# Altium footprint library libreriaPcb.PcbLib: 683 footprints (part 3 of 44)
Each footprint in its own frame and in the unit in brackets; x right, y up, seen from the top. Pads: shape width x height; smd on the part's side, far side on the other; paste and mask are expansions set on the pad; w line width, h text height; cw(c..) or ccw(c..) is an arc to the next point about the centre after c.
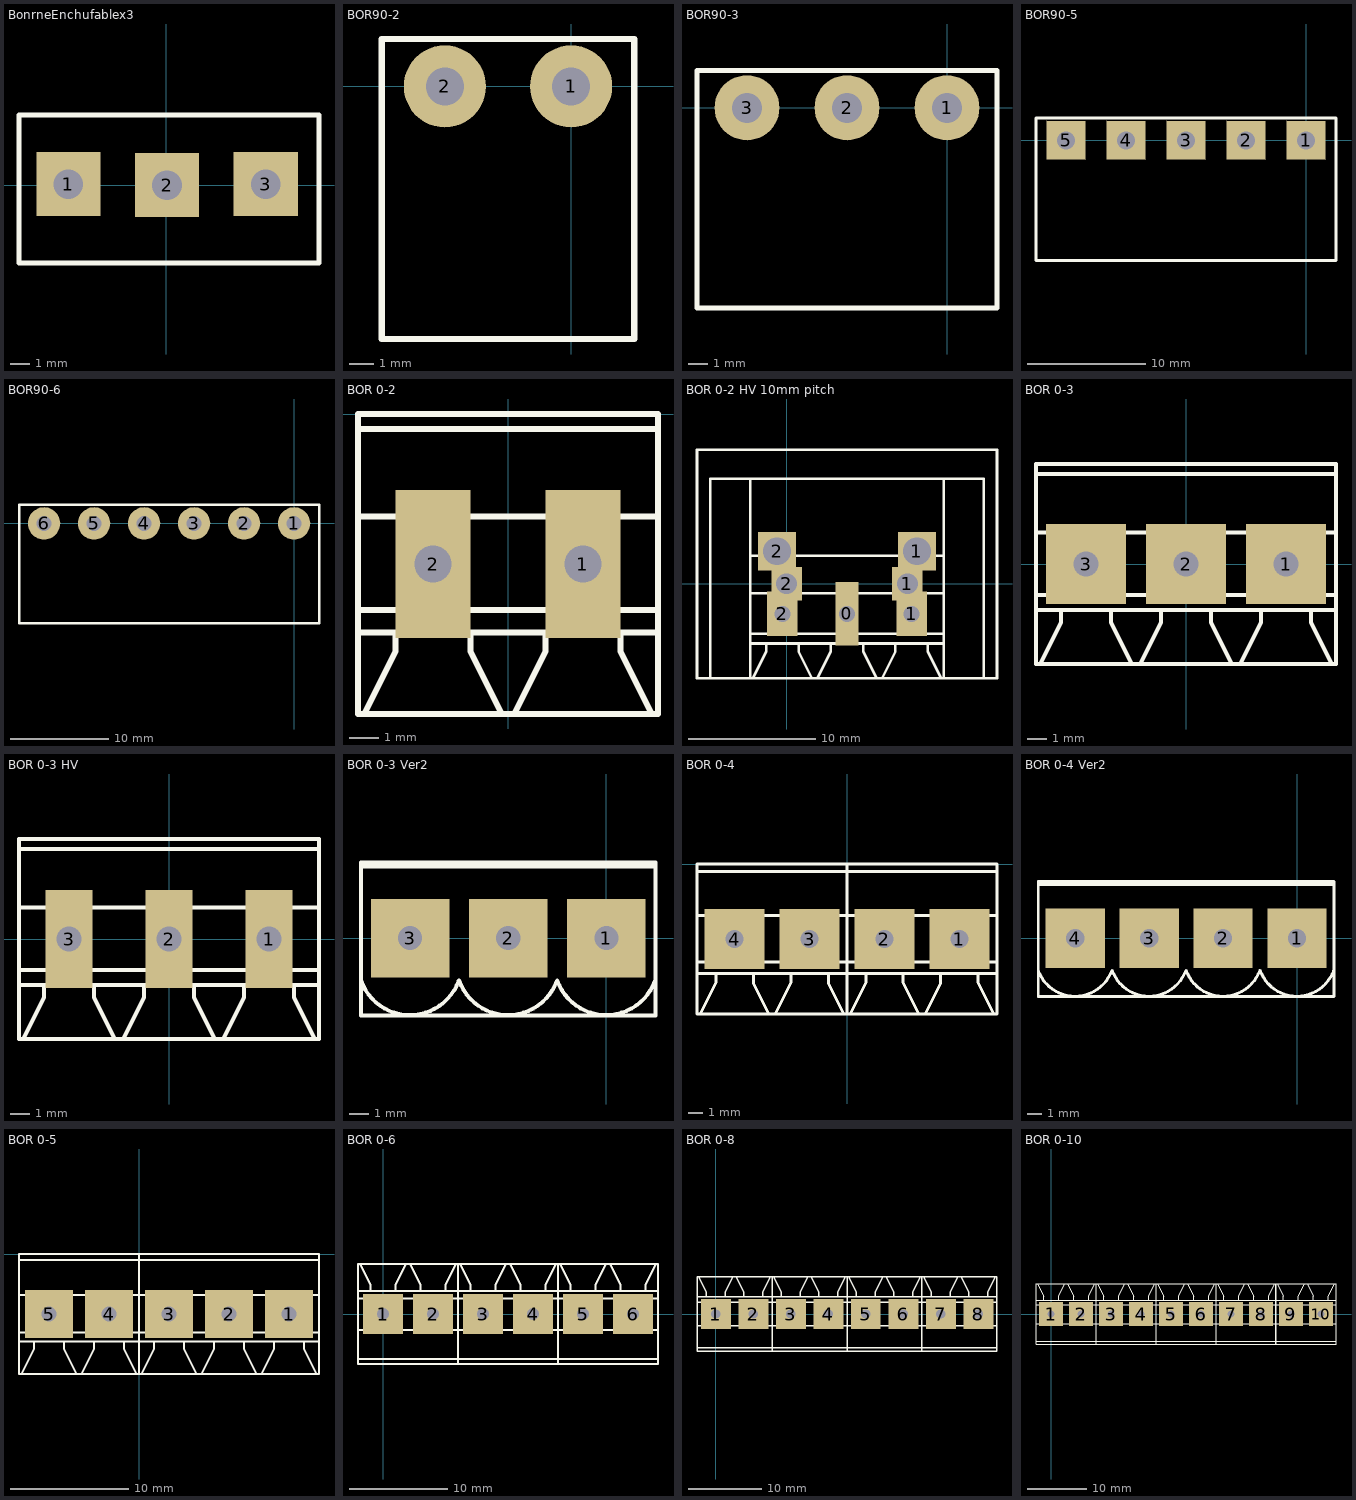
[diagram p2: the footprints below, top view; thin cyan lines are the x and y axes]

## BonrneEnchufablex3 [mm]
pads (3):
  rect 3.25x3.25 hole 1.5: 1(-4.957,0.058) 2(0.043,0.004) 3(5.043,0.058)
Top Overlay:
  lines w0.254: -7.457,-3.942 7.743,-3.942 7.743,3.558 -7.457,3.558 -7.457,-3.942
3D body: height 3, standoff 0, extent -7.584,-4.069 7.743,3.685
3D body: height 12, standoff 0, extent -7.457,-3.849 7.743,-3.442
3D body: height 12, standoff 0, extent -7.457,2.458 -2.444,3.595
3D body: height 12, standoff 0, extent -2.457,2.458 2.556,3.595
3D body: height 12, standoff 0, extent 2.543,2.458 7.556,3.595
3D body: height 10, standoff -2, extent -5.651,-0.64 -4.257,0.757
3D body: height 10, standoff -2, extent -0.651,-0.694 0.743,0.703
3D body: height 10, standoff -2, extent 4.349,-0.64 5.743,0.757

## BOR90-2 [mil]
pads (2):
  round 130 hole 60: 1(0,0) 2(-200,0)
Top Overlay:
  lines w10: -300,-400 100,-400 100,75 -300,75 -300,-400

## BOR90-3 [mil]
pads (3):
  round 130 hole 60: 1(0,0) 2(-200,0) 3(-400,0)
Top Overlay:
  lines w10: -500,-400 100,-400 100,75 -500,75 -500,-400

## BOR90-5 [mil]
pads (5):
  rect 130x130 hole 60: 1(0,0) 2(-200,0) 3(-400,0) 4(-600,0) 5(-800,0)
Top Overlay:
  lines w10: -900,-400 -900,75 100,75 100,-400 -900,-400

## BOR90-6 [mil]
pads (6):
  round 130 hole 60: 1(0,0) 2(-200,0) 3(-400,0) 4(-600,0) 5(-800,0) 6(-1000,0)
Top Overlay:
  lines w10: -1100,-400 100,-400 100,75 -1100,75 -1100,-400

## BOR 0-2 [mm]
pads (2):
  rect 2.54x5 hole 1.25: 1(2.54,-5.08) 2(-2.54,-5.08)
Top Overlay:
  lines w0.203: -5.08,-7.408 5.08,-7.408 ; -5.08,-6.646 5.08,-6.646 ; -5.08,-3.471 5.08,-3.471 ; -5.08,-0.508 5.08,-0.508 ; -4.868,-10.16 -3.81,-8.043 -3.81,-7.408 ; -1.27,-7.408 -1.27,-8.043 -0.212,-10.16 ; 0.212,-10.16 1.27,-8.043 1.27,-7.408 ; 3.81,-7.408 3.81,-8.043 4.868,-10.16 ; -5.08,-10.16 5.08,-10.16 5.08,0 -5.08,0 -5.08,-10.16
3D body: height 10, standoff 0, extent -5.182,-10.262 5.182,0.102

## BOR 0-2 HV 10mm pitch [mm]
pads (7):
  rect 1.8x5 hole 1.25: 0(4.75,-2.37)
  rect 2.4x2.6 hole 1.65: 1(9.5,0) 2(0,0)
  rect 2.4x3.5 hole 1.25: 1(9.83,-2.37) 2(-0.33,-2.37)
  rect 3x3 hole 2.2: 1(10.25,2.557) 2(-0.75,2.557)
Top Overlay:
  lines w0.203: -6,-7.45 -6,-6.719 -6,8.272 -4.617,8.272 -2.87,8.272 ; -2.87,-4.699 12.37,-4.699 ; -2.87,-3.937 12.37,-3.937 ; -2.87,-0.762 12.37,-0.762 ; -2.87,2.202 12.37,2.202 ; -2.658,-7.45 -1.6,-5.334 -1.6,-4.699 ; 0.94,-4.699 0.94,-5.334 1.998,-7.45 ; 2.422,-7.45 3.48,-5.334 3.48,-4.699 ; 6.02,-4.699 6.02,-5.334 7.078,-7.45 ; 7.502,-7.45 8.56,-5.334 8.56,-4.699 ; 11.1,-4.699 11.1,-5.334 12.158,-7.45 ; 15.5,-7.45 15.5,-5.5 15.5,6.5 15.5,8.272 12.37,8.272 ; -2.87,-7.45 -4.617,-7.45 -7.05,-7.45 -7.05,-6.364 -7.05,5.636 -7.05,10.557 -2.946,10.557 12.294,10.557 16.55,10.557 16.55,6.475 16.55,-5.525 16.55,-7.45 12.37,-7.45 ; -2.87,-7.45 12.37,-7.45 ; -2.87,-7.45 -2.87,8.272 ; -2.87,8.272 12.37,8.272 ; 12.37,-7.45 12.37,8.272
3D body: height 10, standoff 0, extent -7.137,-7.349 16.459,10.49

## BOR 0-3 [mil]
pads (3):
  rect 160x160 hole 49.21: 1(200,0) 2(0,0) 3(-200,0)
Top Overlay:
  lines w8: -300,-91.67 300,-91.67 ; -300,-61.67 300,-61.67 ; -300,63.33 300,63.33 ; -300,180 300,180 ; -291.67,-200 -250,-116.67 -250,-91.67 ; -150,-91.67 -150,-116.67 -108.33,-200 ; -91.67,-200 -50,-116.67 -50,-91.67 ; 50,-91.67 50,-116.67 91.67,-200 ; 108.33,-200 150,-116.67 150,-91.67 ; 250,-91.67 250,-116.67 291.67,-200 ; -300,-200 -300,200 300,200 300,-200 -300,-200

## BOR 0-3 HV [mm]
pads (3):
  rect 2.4x5 hole 1.25: 1(5.08,0) 2(0,0) 3(-5.08,0)
Top Overlay:
  lines w0.203: -7.62,-2.328 7.62,-2.328 ; -7.62,-1.566 7.62,-1.566 ; -7.62,1.609 7.62,1.609 ; -7.62,4.572 7.62,4.572 ; -7.408,-5.08 -6.35,-2.963 -6.35,-2.328 ; -3.81,-2.328 -3.81,-2.963 -2.752,-5.08 ; -2.328,-5.08 -1.27,-2.963 -1.27,-2.328 ; 1.27,-2.328 1.27,-2.963 2.328,-5.08 ; 2.752,-5.08 3.81,-2.963 3.81,-2.328 ; 6.35,-2.328 6.35,-2.963 7.408,-5.08 ; -7.62,-5.08 7.62,-5.08 7.62,5.08 -7.62,5.08 -7.62,-5.08
3D body: height 10, standoff 0, extent -7.722,-5.182 7.722,5.182

## BOR 0-3 Ver2 [mil]
pads (3):
  rect 160x160 hole 49.21: 1(0,0) 2(-200,0) 3(-400,0)
Top Overlay:
  lines w8: -500,-86.61 ccw(c-400.42,-51.37) -301.03,-87.13 ; -500,145.67 100,145.67 ; -300,-86.61 ccw(c-200.42,-51.37) -101.03,-87.13 ; -100,-86.61 ccw(c-0.42,-51.37) 98.97,-87.13 ; -500,-157.48 -500,153.54 100,153.54 100,-157.48 -500,-157.48

## BOR 0-4 [mil]
pads (4):
  rect 160x160 hole 49.21: 1(300,-200) 2(100,-200) 3(-100,-200) 4(-300,-200)
Top Overlay:
  lines w8: -400,-291.67 400,-291.67 ; -400,-261.67 400,-261.67 ; -400,-136.67 400,-136.67 ; -400,-20 400,-20 ; -391.67,-400 -350,-316.67 -350,-291.67 ; -250,-291.67 -250,-316.67 -208.33,-400 ; -191.67,-400 -150,-316.67 -150,-291.67 ; -50,-291.67 -50,-316.67 -8.33,-400 ; 0,-400 0,0 ; 8.33,-400 50,-316.67 50,-291.67 ; 150,-291.67 150,-316.67 191.67,-400 ; 208.33,-400 250,-316.67 250,-291.67 ; 350,-291.67 350,-316.67 391.67,-400 ; -400,-400 -400,0 400,0 400,-400 -400,-400

## BOR 0-4 Ver2 [mil]
pads (4):
  rect 160x160 hole 49.21: 1(0,0) 2(-200,0) 3(-400,0) 4(-600,0)
Top Overlay:
  lines w8: -700,-86.61 ccw(c-600.42,-51.37) -501.03,-87.13 ; -700,145.67 100,145.67 ; -500,-86.61 ccw(c-400.42,-51.37) -301.03,-87.13 ; -300,-86.61 ccw(c-200.42,-51.37) -101.03,-87.13 ; -100,-86.61 ccw(c-0.42,-51.37) 98.97,-87.13 ; -700,-157.48 -700,153.54 ; -700,-157.48 -700,153.54 ; -700,-157.48 100,-157.48 100,153.54 -700,153.54

## BOR 0-5 [mil]
pads (5):
  rect 160x160 hole 49.21: 1(500,-200) 2(300,-200) 3(100,-200) 4(-100,-200) 5(-300,-200)
Top Overlay:
  lines w8: -400,-291.67 600,-291.67 ; -400,-136.67 -200,-136.67 600,-136.67 ; -400,-20 -200,-20 600,-20 ; -391.67,-400 -350,-316.67 -350,-291.67 ; -250,-291.67 -250,-316.67 -208.33,-400 ; -191.67,-400 -150,-316.67 -150,-291.67 ; -50,-291.67 -50,-316.67 -8.33,-400 ; 0,-400 0,0 ; 0,-261.67 -400,-261.67 -200,-261.67 600,-261.67 ; 8.33,-400 50,-316.67 50,-291.67 ; 150,-291.67 150,-316.67 191.67,-400 ; 208.33,-400 250,-316.67 250,-291.67 ; 350,-291.67 350,-316.67 391.67,-400 ; 408.33,-400 450,-316.67 450,-291.67 ; 550,-291.67 550,-316.67 591.67,-400 ; -400,-400 -400,0 -200,0 600,0 600,-400 -400,-400

## BOR 0-6 [mil]
pads (6):
  rect 160x160 hole 49.21: 1(0,0) 2(200,0) 3(400,0) 4(600,0) 5(800,0) 6(1000,0)
Top Overlay:
  lines w8: -100,-180 700,-180 ; -100,-63.33 700,-63.33 1100,-63.33 ; -100,61.67 700,61.67 1100,61.67 ; -100,91.67 900,91.67 ; -91.67,200 -50,116.67 -50,91.67 ; 50,91.67 50,116.67 91.67,200 ; 108.33,200 150,116.67 150,91.67 ; 250,91.67 250,116.67 291.67,200 ; 300,-200 300,200 ; 308.33,200 350,116.67 350,91.67 ; 450,91.67 450,116.67 491.67,200 ; 500,-200 1100,-200 1100,200 -100,200 -100,-200 700,-200 700,200 ; 500,-180 1100,-180 ; 500,-63.33 900,-63.33 ; 500,61.67 900,61.67 ; 508.33,200 550,116.67 550,91.67 ; 650,91.67 650,116.67 691.67,200 ; 700,91.67 1100,91.67 ; 708.33,200 750,116.67 750,91.67 ; 850,91.67 850,116.67 891.67,200 ; 908.33,200 950,116.67 950,91.67 ; 1050,91.67 1050,116.67 1091.67,200

## BOR 0-8 [mil]
pads (8):
  rect 160x160 hole 49.21: 1(0,0) 2(200,0) 3(400,0) 4(600,0) 5(800,0) 6(1000,0) 7(1200,0) 8(1400,0)
Top Overlay:
  lines w8: -100,-180 700,-180 ; -100,-63.33 700,-63.33 1100,-63.33 1500,-63.33 ; -100,61.67 700,61.67 1100,61.67 1500,61.67 ; -100,91.67 900,91.67 ; -91.67,200 -50,116.67 -50,91.67 ; 50,91.67 50,116.67 91.67,200 ; 108.33,200 150,116.67 150,91.67 ; 250,91.67 250,116.67 291.67,200 ; 300,-200 300,200 ; 308.33,200 350,116.67 350,91.67 ; 450,91.67 450,116.67 491.67,200 ; 500,-200 1100,-200 ; 500,-180 1100,-180 1499.68,-180 ; 500,-63.33 900,-63.33 ; 500,61.67 900,61.67 ; 508.33,200 550,116.67 550,91.67 ; 650,91.67 650,116.67 691.67,200 ; 700,91.67 1100,91.67 1500,91.67 ; 700,200 700,-200 -100,-200 -100,200 1100,200 ; 708.33,200 750,116.67 750,91.67 ; 850,91.67 850,116.67 891.67,200 ; 908.33,200 950,116.67 950,91.67 ; 1050,91.67 1050,116.67 1091.67,200 ; 1108.33,200 1150,116.67 1150,91.67 ; 1250,91.67 1250,116.67 1291.67,200 ; 1308.33,200 1350,116.67 1350,91.67 ; 1450,91.67 1450,116.67 1491.67,200 ; 1100,-200 1500,-200 1500,200 1100,200 ; 1100,-200 1100,200

## BOR 0-10 [mil]
pads (10):
  rect 160x160 hole 49.21: 1(0,0) 2(200,0) 3(400,0) 4(600,0) 5(800,0) 6(1000,0) 7(1200,0) 8(1400,0) 9(1599.61,0) 10(1799.61,0)
Top Overlay:
  lines w8: -100,-180 700,-180 ; -100,-63.33 700,-63.33 1100,-63.33 1500,-63.33 ; -100,61.67 700,61.67 1100,61.67 1500,61.67 ; -100,91.67 900,91.67 ; -91.67,200 -50,116.67 -50,91.67 ; 50,91.67 50,116.67 91.67,200 ; 108.33,200 150,116.67 150,91.67 ; 250,91.67 250,116.67 291.67,200 ; 300,-200 300,200 ; 308.33,200 350,116.67 350,91.67 ; 450,91.67 450,116.67 491.67,200 ; 500,-200 1100,-200 ; 500,-180 1100,-180 1499.68,-180 ; 500,-63.33 900,-63.33 ; 500,61.67 900,61.67 ; 508.33,200 550,116.67 550,91.67 ; 650,91.67 650,116.67 691.67,200 ; 700,91.67 1100,91.67 1500,91.67 ; 700,200 700,-200 -100,-200 -100,200 1100,200 ; 708.33,200 750,116.67 750,91.67 ; 850,91.67 850,116.67 891.67,200 ; 908.33,200 950,116.67 950,91.67 ; 1050,91.67 1050,116.67 1091.67,200 ; 1108.33,200 1150,116.67 1150,91.67 ; 1250,91.67 1250,116.67 1291.67,200 ; 1308.33,200 1350,116.67 1350,91.67 ; 1450,91.67 1450,116.67 1491.67,200 ; 1499.61,-180 1899.29,-180 ; 1499.61,-63.33 1899.61,-63.33 ; 1499.61,61.67 1899.61,61.67 ; 1499.61,91.67 1899.61,91.67 ; 1507.94,200 1549.61,116.67 1549.61,91.67 ; 1649.61,91.67 1649.61,116.67 1691.27,200 ; 1707.94,200 1749.61,116.67 1749.61,91.67 ; 1849.61,91.67 1849.61,116.67 1891.27,200 ; 1100,-200 1500,-200 1500,200 1100,200 ; 1100,-200 1100,200 ; 1499.61,-200 1499.61,200 1899.61,200 1899.61,-200 1499.61,-200